# EAGLE library part TPS27081A (library lib_stankus)
TI TPS27081A Farnell #2323775
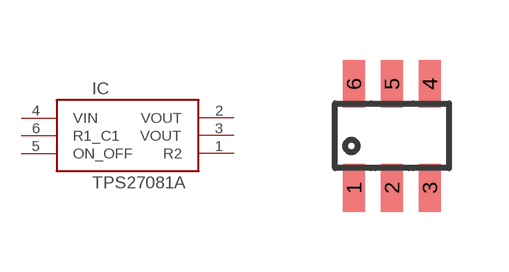
[diagram p79: symbol with the pads of SOT23-6; footprint SOT23-6]

Designator prefix IC

## TPS27081A-SOT23-6  [SOT23-6]
1  R2  pas
2  VOUT  pas
3  VOUT  pas
4  VIN  pas
5  ON_OFF  pas
6  R1_C1  pas

## Footprint SOT23-6 (pad centres in mm)
SOT23-6
smd 0.55 x 1.2: 1 -0.95,-1.3; 2 0,-1.3; 3 0.95,-1.3; 4 0.95,1.3; 5 0,1.3; 6 -0.95,1.3